# Altium footprint library DTF13-4P.PcbLib: 1 footprints
Each footprint in its own frame and in the unit in brackets; x right, y up, seen from the top. Pads: shape width x height; smd on the part's side, far side on the other; paste and mask are expansions set on the pad; w line width, h text height; cw(c..) or ccw(c..) is an arc to the next point about the centre after c.
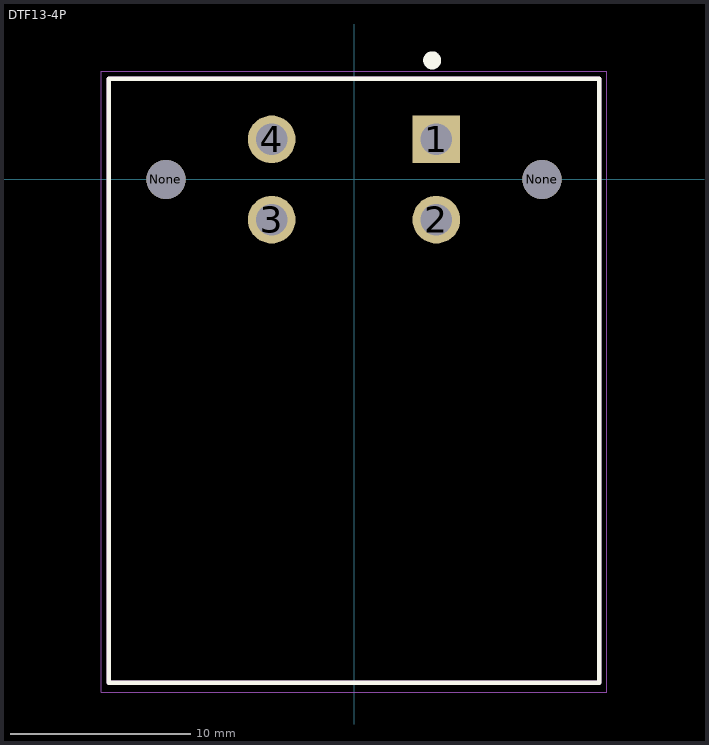
[diagram p0: the footprint, top view; thin cyan lines are the x and y axes]

## DTF13-4P [mm]
pads (6):
  rect 2.64x2.64 hole 1.76: 1(4.561,2.223)
  round 2.64 hole 1.76: 2(4.561,-2.227) 3(-4.559,-2.227) 4(-4.559,2.223)
  round 2.16 hole 2.16 unplated: None(-10.415,0) None(10.415,0)
Top Overlay:
  circle w0.5: c4.33,6.6 r0.25
  lines w0.254: -13.59,-27.88 -13.59,5.58 13.59,5.58 13.59,-27.88 -13.59,-27.88
Mechanical 4:
  lines w0.254: -13.59,-27.88 -13.59,5.58 ; -13.59,-27.88 13.59,-27.88 ; -13.59,-27.88 -13.59,5.58 ; -13.59,-27.88 13.59,-27.88 ; -13.59,5.58 13.59,5.58 ; -13.59,5.58 13.59,5.58 ; 13.59,-27.88 13.59,5.58 ; 13.59,-27.88 13.59,5.58
Mechanical 16:
  lines w0.05: -14,-28.4 -14,6 14,6 14,-28.4 -14,-28.4
3D body "DTF13-4P.stp": height 23.53, standoff -3.04, extent -13.589,-27.94 13.589,5.525